# EAGLE library part USB_MICRO_7PIN (library DECADE-libraries20151104)
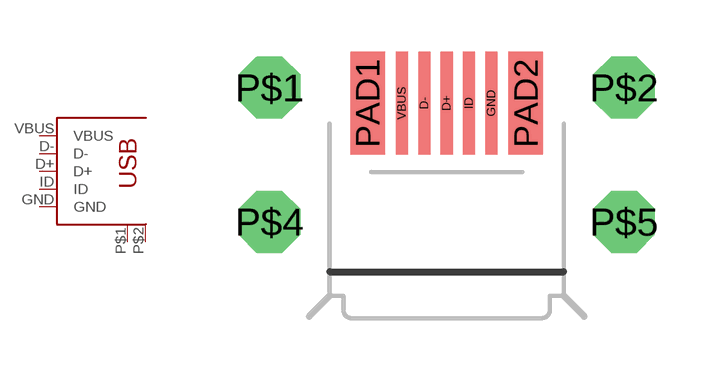
[diagram p132: symbol with the pads of USB-MICROB-7PIN; footprint USB-MICROB-7PIN]

Designator prefix -

## USB_MICRO_7PIN  [USB-MICROB-7PIN]
D+  D+
D-  D-
GND  GND
ID  ID
P$1  P$1
P$2  P$2
VBUS  VBUS

## Footprint USB-MICROB-7PIN (pad centres in mm)
Micro USB Package
smd 0.35 x 3: D+ 0,3.45; D- -0.65,3.45; GND 1.3,3.45; ID 0.65,3.45; VBUS -1.3,3.45
drill 1.2 octagon: P$1 -5.15,3.9; P$2 5.15,3.9; P$4 -5.15,0; P$5 5.15,0
smd 1 x 3: PAD1 -2.3,3.45; PAD2 2.3,3.45